# Altium schematic symbol library Connector1x7.Schlib: 1 symbol
Pins are listed as number, name and electrical type; pins without a type are passive.

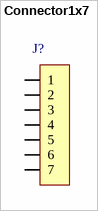
[diagram p0: symbol Connector1x7]

## Connector1x7
designator J?
pins: 1, 2, 3, 4, 5, 6, 7